# EAGLE library part MPU-9250 (library Library)
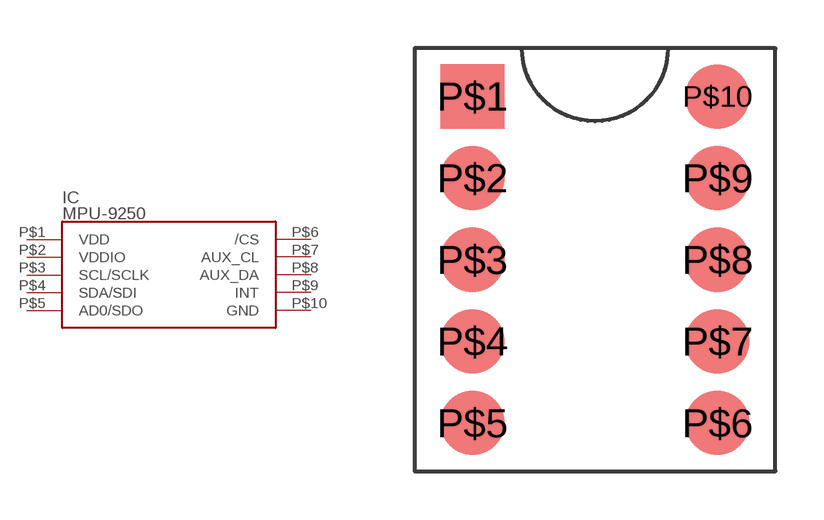
[diagram p1: symbol with the pads of DIP10S; footprint DIP10S]

Designator prefix IC

## MPU-9250 (MF: InverSense; MPN: MPU-9250; OC: 12250; SITE: StrawberryLinux)  [DIP10S]
P$1  VDD
P$2  VDDIO
P$3  SCL/SCLK
P$4  SDA/SDI
P$5  AD0/SDO
P$6  /CS
P$7  AUX_CL
P$8  AUX_DA
P$9  INT
P$10  GND

## Footprint DIP10S (pad centres in mm)
smd 2 x 2: P$1 0,10.16; P$2 0,7.62; P$3 0,5.08; P$4 0,2.54; P$5 0,0; P$6 7.62,0; P$7 7.62,2.54; P$8 7.62,5.08; P$9 7.62,7.62; P$10 7.62,10.16